# Altium footprint library CAPC2114X145N.PcbLib: 1 footprints
Each footprint in its own frame and in the unit in brackets; x right, y up, seen from the top. Pads: shape width x height; smd on the part's side, far side on the other; paste and mask are expansions set on the pad; w line width, h text height; cw(c..) or ccw(c..) is an arc to the next point about the centre after c.
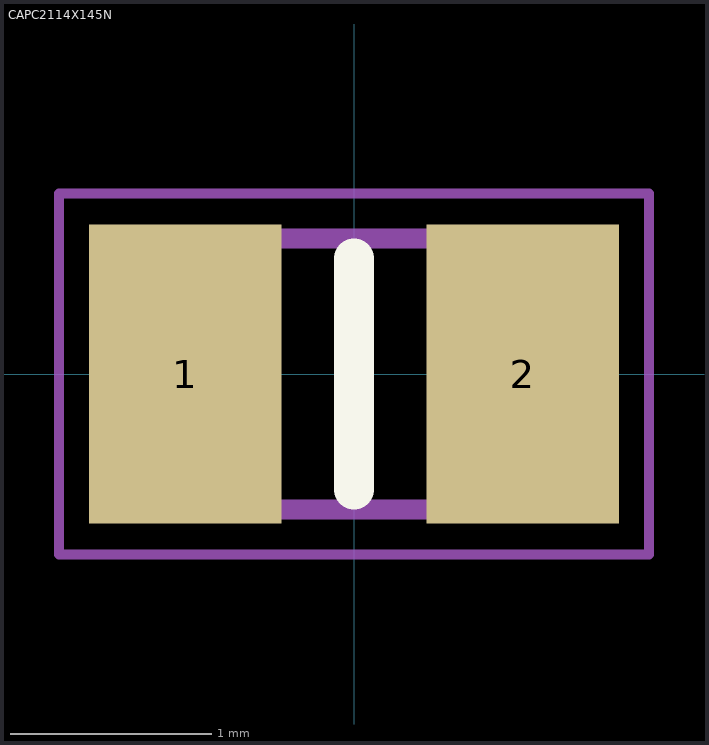
[diagram p0: the footprint, top view; thin cyan lines are the x and y axes]

## CAPC2114X145N [mm]
pads (2):
  rect 0.96x1.49 smd: 1(-0.84,0) 2(0.84,0)
Top Overlay:
  lines w0.2: 0,-0.575 0,0.575
Mechanical 15:
  lines w0.1: -1.05,-0.675 1.05,-0.675 1.05,0.675 -1.05,0.675 -1.05,-0.675
Mechanical 20:
  lines w0.05: -1.47,-0.9 1.47,-0.9 1.47,0.9 -1.47,0.9 -1.47,-0.9